# Altium footprint library clock.PcbLib: 2 footprints
Each footprint in its own frame and in the unit in brackets; x right, y up, seen from the top. Pads: shape width x height; smd on the part's side, far side on the other; paste and mask are expansions set on the pad; w line width, h text height; cw(c..) or ccw(c..) is an arc to the next point about the centre after c.
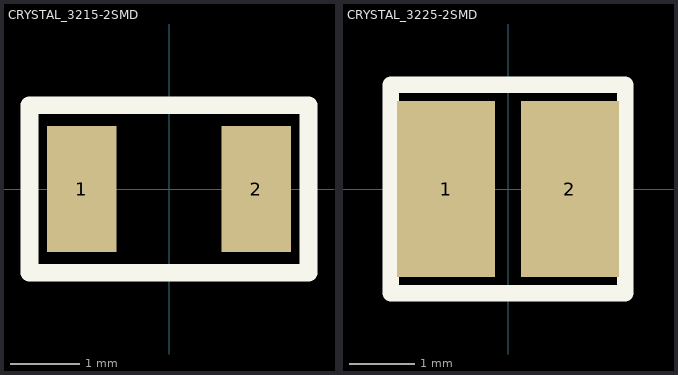
[diagram p0: the footprints below, top view; thin cyan lines are the x and y axes]

## CRYSTAL_3215-2SMD [mm]
pads (2):
  rect 1x1.8 smd: 1(-1.25,0) 2(1.25,0)
Top Overlay:
  lines w0.254: -2,-1.2 -2,1.2 2,1.2 2,-1.2 -2,-1.2
3D body "NX3215SA.step": height 0.8, standoff 0, extent -1.6,-0.75 1.6,0.75

## CRYSTAL_3225-2SMD [mm]
pads (2):
  rect 1.5x2.7 smd: 1(-0.95,0) 2(0.95,0)
Top Overlay:
  lines w0.254: -1.8,-1.6 -1.8,1.6 1.8,1.6 1.8,-1.6 -1.8,-1.6
3D body: height 1, standoff 0, extent -1.8,-1.6 1.8,1.6